# EAGLE library part ADM1485 (library gost_micro)
+5V High Speed, Ultra-Low Power EIA RS-485 Transceiver
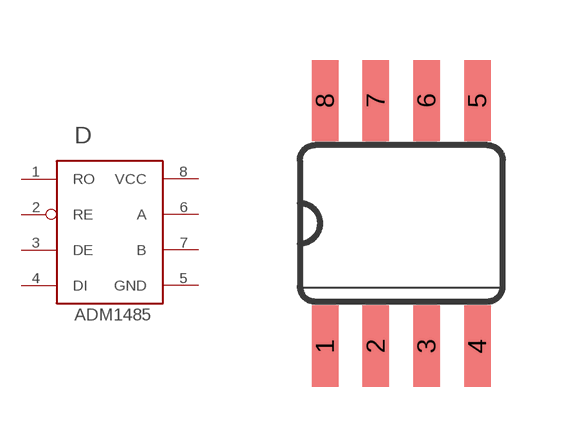
[diagram p7: symbol with the pads of SO08; footprint SO08]

Designator prefix D

## ADM1485  [SO08]
1  RO
2  RE
3  DE
4  DI
5  GND  pwr
6  A
7  B
8  VCC  pwr

## Footprint SO08 (pad centres in mm)
Small Outline package 8 150 mil
smd 0.66 x 2.032: 1 -1.905,-3.073; 2 -0.635,-3.073; 3 0.635,-3.073; 4 1.905,-3.073; 5 1.905,3.073; 6 0.635,3.073; 7 -0.635,3.073; 8 -1.905,3.073